# Altium footprint library PCB - SWITCH - OMRON B3S-1000P.PcbLib: 1 footprints
Each footprint in its own frame and in the unit in brackets; x right, y up, seen from the top. Pads: shape width x height; smd on the part's side, far side on the other; paste and mask are expansions set on the pad; w line width, h text height; cw(c..) or ccw(c..) is an arc to the next point about the centre after c.
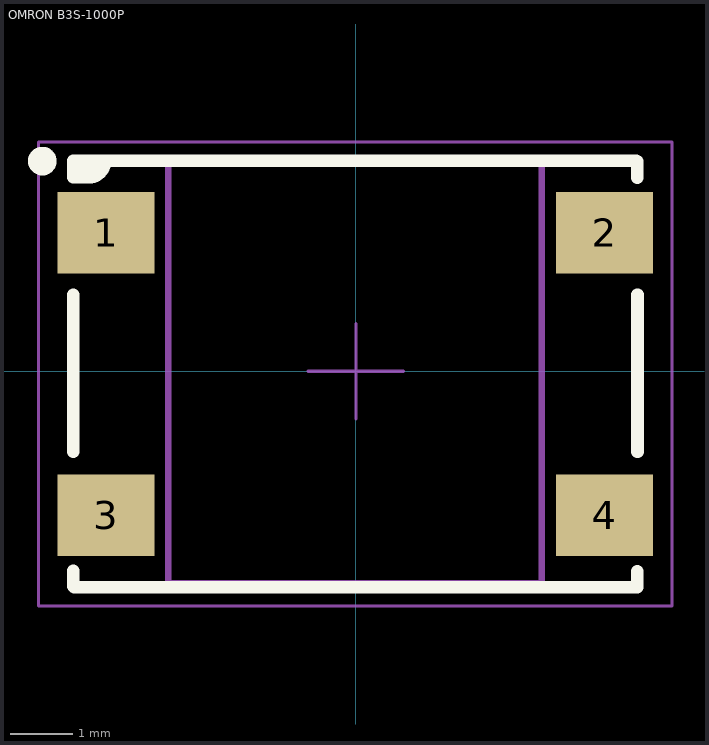
[diagram p0: the footprint, top view; thin cyan lines are the x and y axes]

## OMRON B3S-1000P [mm] "B3S-1000P, 4 Pins, 6.6x6.6x4.3mm, 4.5mm Pitch"
height 4.3
pads (4):
  rect 1.55x1.3 smd: 1(-3.984,2.207) 2(3.966,2.207) 3(-3.984,-2.293) 4(3.966,-2.293)
Top Overlay:
  circle w0.25: c-5,3.352 r0.103
  region: -4.503,3.36 -4.495,3.352 -4,3.352 -4.26,3.092 -4.503,3.092
  lines w0.2: -4.503,-3.178 -4.503,-3.431 -4.488,-3.446 4.429,-3.446 ; -4.503,-1.282 -4.503,1.218 ; -4,3.352 cw(c-4.26,3.352) -4.26,3.092 -4.503,3.092 -4.503,3.36 4.474,3.36 ; 4.485,-3.444 4.485,-3.191 ; 4.485,3.087 4.485,3.352 ; 4.491,-1.282 4.491,1.218
Mechanical 13:
  lines w0.1: -2.993,-3.378 -2.993,3.312 2.963,3.312 2.963,-3.378 2.638,-3.378 -2.993,-3.378
Mechanical 15 (Mech15):
  lines w0.05: -0.762,0 0.762,0 ; 0,-0.762 0,0.762 ; -5.062,-3.743 -5.062,3.657 5.044,3.657 5.044,-3.743 -5.062,-3.743
3D body "Omron - B3S.step": height 4.3, standoff 0, extent -4.509,-3.343 4.491,3.257